# EAGLE library part USB_HOST_MINI (library paulw11_lightblue_bean)
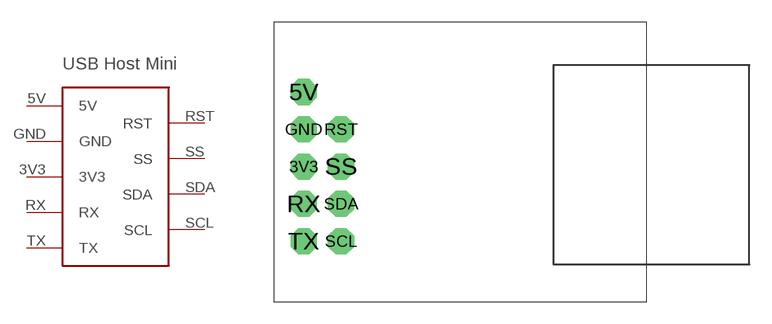
[diagram p2: symbol with the pads of USB_HOST_MINI; footprint USB_HOST_MINI]

Designator prefix -

## USB_HOST_MINI  [USB_HOST_MINI]
3V3  3V3
5V  5V
GND  GND
RST  RST
RX  RX
SCL  SCL
SDA  SDA
SS  SS
TX  TX

## Footprint USB_HOST_MINI (pad centres in mm)
drill 1.016 pad 1.778 octagon: 3V3 2.057,9.207; 5V 2.057,14.287; GND 2.057,11.748; RST 4.597,11.748; RX 2.057,6.668; SCL 4.597,4.128; SDA 4.597,6.668; SS 4.597,9.207; TX 2.057,4.128